# Altium schematic symbol library XTAL-2T.SchLib: 1 symbol
Pins are listed as number, name and electrical type; pins without a type are passive.

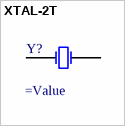
[diagram p0: symbol XTAL-2T]

## XTAL-2T
designator Y?
Drawn By: Juan I Carrano
pins: 1, 2